# EAGLE library part W25Q32 (library NaRRIK)
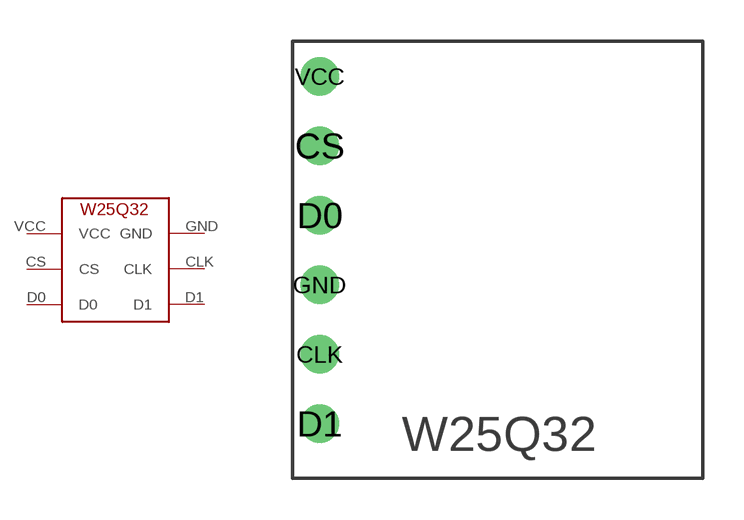
[diagram p0: symbol with the pads of W25Q32; footprint W25Q32]

Designator prefix -

## W25Q32  [W25Q32]
CLK  CLK
CS  CS
D0  D0
D1  D1
GND  GND
VCC  VCC

## Footprint W25Q32 (pad centres in mm)
drill 0.9: CLK 1,4.54; CS 1,12.16; D0 1,9.62; D1 1,2; GND 1,7.08; VCC 1,14.7